# Altium footprint library SILIBS-NB-SO16.PcbLib: 1 footprints
Each footprint in its own frame and in the unit in brackets; x right, y up, seen from the top. Pads: shape width x height; smd on the part's side, far side on the other; paste and mask are expansions set on the pad; w line width, h text height; cw(c..) or ccw(c..) is an arc to the next point about the centre after c.
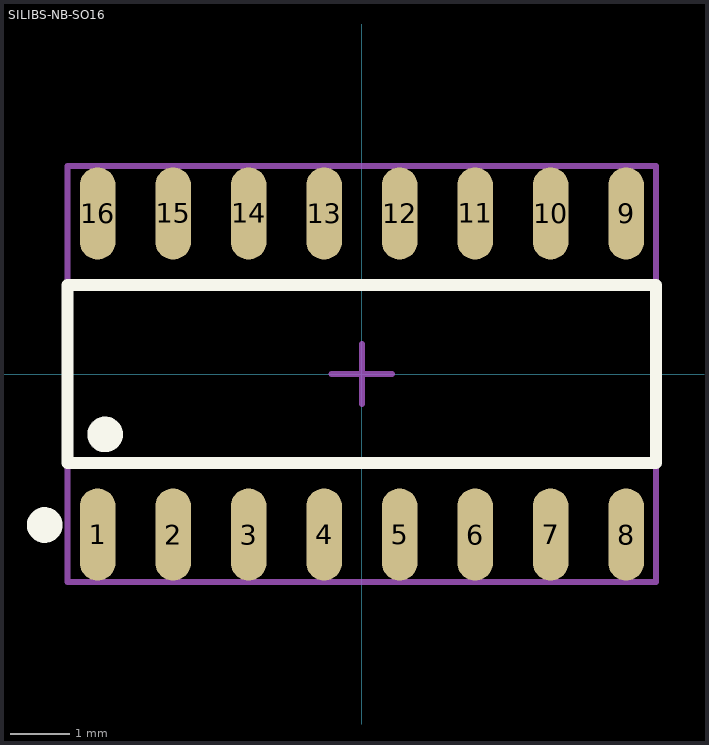
[diagram p0: the footprint, top view; thin cyan lines are the x and y axes]

## SILIBS-NB-SO16 [mm] "SOP, 16-Leads, Body 9.90x3.90mm, Pitch 1.27mm, IPC High Density"
height 1.75
pads (16):
  oval 0.6x1.55 smd: 1(-4.445,-2.7) 2(-3.175,-2.7) 3(-1.905,-2.7) 4(-0.635,-2.7) 5(0.635,-2.7) 6(1.905,-2.7) 7(3.175,-2.7) 8(4.445,-2.7) 9(4.445,2.7) 10(3.175,2.7) 11(1.905,2.7) 12(0.635,2.7) 13(-0.635,2.7) 14(-1.905,2.7) 15(-3.175,2.7) 16(-4.445,2.7)
Top Overlay:
  circle w0.3: c-4.318,-1.016 r0.15
  circle w0.3: c-5.334,-2.54 r0.15
  lines w0.2: -4.95,-1.5 -4.95,1.5 4.95,1.5 4.95,-1.5 -4.95,-1.5
Mechanical 15:
  lines w0.1: -0.508,0 0.508,0 ; 0,-0.508 0,0.508 ; -4.95,-3.5 4.95,-3.5 4.95,3.5 -4.95,3.5 -4.95,-3.5
3D body: height 1.95, standoff 0, extent -5.15,-3.028 5.15,3.028